# Altium footprint library Texas_Instruments_TLV1117-33IDRJR.PcbLib: 1 footprints
Each footprint in its own frame and in the unit in brackets; x right, y up, seen from the top. Pads: shape width x height; smd on the part's side, far side on the other; paste and mask are expansions set on the pad; w line width, h text height; cw(c..) or ccw(c..) is an arc to the next point about the centre after c.
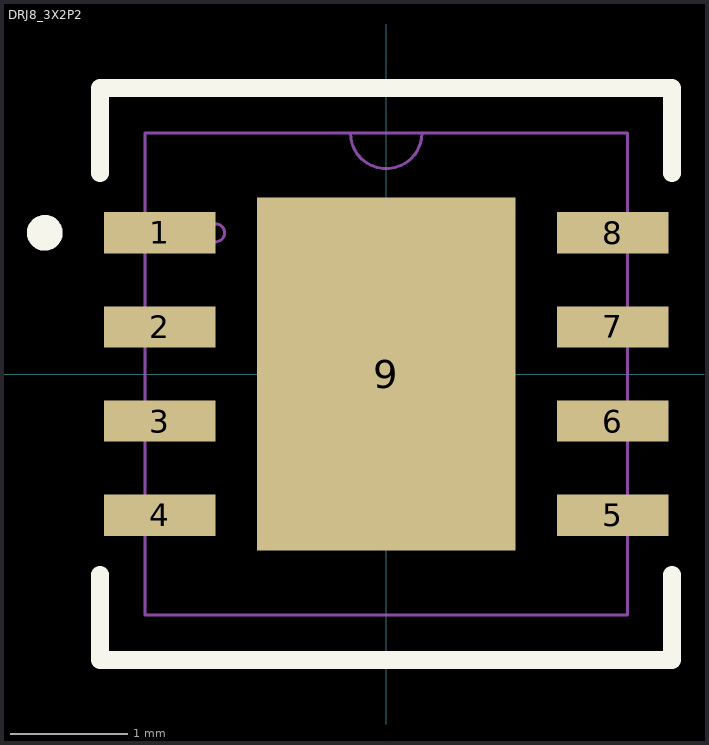
[diagram p0: the footprint, top view; thin cyan lines are the x and y axes]

## DRJ8_3X2P2 [mm]
pads (9):
  rect 0.95x0.35 smd: 1(-1.925,1.2) 2(-1.925,0.4) 3(-1.925,-0.4) 4(-1.925,-1.2) 5(1.925,-1.2) 6(1.925,-0.4) 7(1.925,0.4) 8(1.925,1.2)
  rect 2.2x3 smd: 9(0,0)
Top Overlay:
  circle w0.152: c-2.902,1.2 r0.076
  lines w0.152: -2.431,-1.706 -2.431,-2.431 2.431,-2.431 2.431,-1.706 ; -2.431,1.706 -2.431,2.431 2.431,2.431 2.431,1.706
Mechanical 1:
  circle w0.025: c-1.45,1.2 r0.076
  lines w0.025: -0.305,2.05 ccw(c0,2.05) 0.305,2.05 ; -2.05,-2.05 2.05,-2.05 2.05,2.05 -2.05,2.05 -2.05,-2.05